# EAGLE library part LM2696 (library _mtvl.power)
LM2676 SIMPLE SWITCHER® High Efficiency 3A Step-Down Voltage Regulator
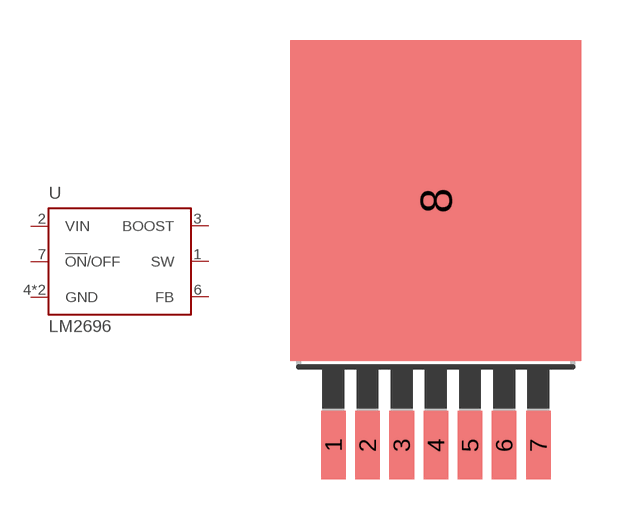
[diagram p1: symbol with the pads of TO263-7; footprint TO263-7]

Designator prefix -

## LM2696  [TO263-7]
1  SW  out
2  VIN  in
3  BOOST  in
4  GND  pwr
6  FB  in
7  !ON!/OFF  in
8  GND  pwr

## Footprint TO263-7 (pad centres in mm)
smd 0.914 x 2.54: 1 -3.81,-5.791; 2 -2.54,-5.791; 3 -1.27,-5.791; 4 0,-5.791; 5 1.27,-5.791; 6 2.54,-5.791; 7 3.81,-5.791
smd 10.82 x 11.938: 8 0,3.302